# Altium integrated library Maxim RF Power Amplifier.IntLib: 1 symbol
Pins are listed as number, name and electrical type; pins without a type are passive.

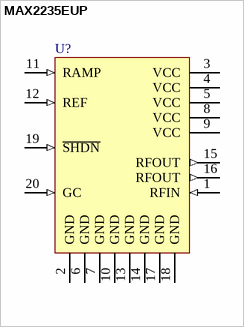
[diagram p0: symbol MAX2235EUP]

## MAX2235EUP
designator U?
+3.6V, 1W Autoramping Power Amplifier for 900MHz Applications; Published: 16-Jan-2001; LatestRevisionDate: 29-May-2009; LatestRevisionNote: IPC-7351 Footprint Added.; DatasheetVersion: May-1999; PackageVersion: 21-0066 C; PackageReference: TSSOP20EP; Publisher: Altium Limited; PackageDescription: 20-Pin Thin Small Outline Package 0.65 mm Pitch; ComponentLink1Description: Manufacturer Link; ComponentLink1URL: http://www.maxim-ic.com/; ComponentLink2Description: Datasheet; ComponentLink2URL: http://pdfserv.maxim-ic.com/en/ds/MAX2235.pdf
footprint TSSOP20EP_N (TSOP, 20-Leads, Body 6.5x4.4mm, Pitch 0.65mm, IPC Medium Density)
footprint TSSOP20EP_L (TSOP, 20-Leads, Body 6.5x4.4mm, Pitch 0.65mm, IPC High Density)
footprint TSSOP20EP_M (TSOP, 20-Leads, Body 6.5x4.4mm, Pitch 0.65mm, IPC Low Density)
3D model TSSOP20 (20-Pin Thin Small Outline Package 0.65 mm Pitch)
pins: 1 RFIN (in), 2 GND (power), 3 VCC (power), 4 VCC (power), 5 VCC (power), 6 GND (power), 7 GND (power), 8 VCC (power), 9 VCC (power), 10 GND (power), 11 RAMP (in), 12 REF (in), 13 GND (power), 14 GND (power), 15 RFOUT (out), 16 RFOUT (out), 17 GND (power), 18 GND (power), 19 ~{SHDN} (in), 20 GC (in)